# EAGLE library part ADP5071AREZ (library ADP5071AREZ)
IC REG BST SEPIC INV ADJ 20TSSOP
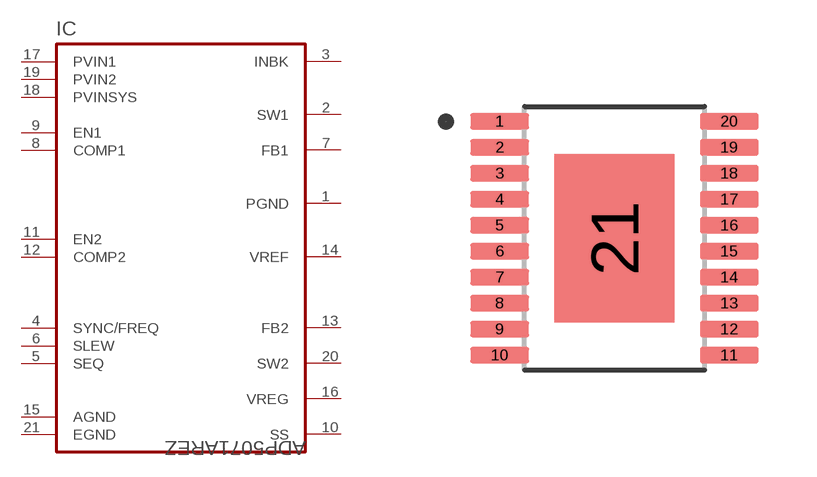
[diagram p0: symbol with the pads of SOP65P640X120-21N; footprint SOP65P640X120-21N]

Designator prefix IC

## ADP5071AREZ (AVAILABILITY: Unavailable; DESCRIPTION: 2 a/1.2 a Dc-To-Dc Switching Regulator With Independent Positive And Negative Outputs, Tssop-20; MF: Analog Devices; MP: ADP5071AREZ; PACKAGE: TSSOP-20 Analog Devices; PRICE: None)  [SOP65P640X120-21N]
1  PGND  pwr
2  SW1  in
3  INBK  out
4  SYNC/FREQ  in
5  SEQ  in
6  SLEW  in
7  FB1  in
8  COMP1  in
9  EN1  in
10  SS  pas
11  EN2  in
12  COMP2  in
13  FB2  in
14  VREF  out
15  AGND  pwr
16  VREG  out
17  PVIN1  in
18  PVINSYS  pwr
19  PVIN2  in
20  SW2  out
21  EGND  pwr

## Footprint SOP65P640X120-21N (pad centres in mm)
Thin Shrink Small Outline Plastic 20
smd 1.47 x 0.41: 1 -2.87,2.925; 2 -2.87,2.275; 3 -2.87,1.625; 4 -2.87,0.975; 5 -2.87,0.325; 6 -2.87,-0.325; 7 -2.87,-0.975; 8 -2.87,-1.625; 9 -2.87,-2.275; 10 -2.87,-2.925; 11 2.87,-2.925; 12 2.87,-2.275; 13 2.87,-1.625; 14 2.87,-0.975; 15 2.87,-0.325; 16 2.87,0.325; 17 2.87,0.975; 18 2.87,1.625; 19 2.87,2.275; 20 2.87,2.925
smd 3 x 4.2: 21 0,0